# Altium footprint library FPT DRRL.PcbLib: 14 footprints
Each footprint in its own frame and in the unit in brackets; x right, y up, seen from the top. Pads: shape width x height; smd on the part's side, far side on the other; paste and mask are expansions set on the pad; w line width, h text height; cw(c..) or ccw(c..) is an arc to the next point about the centre after c.
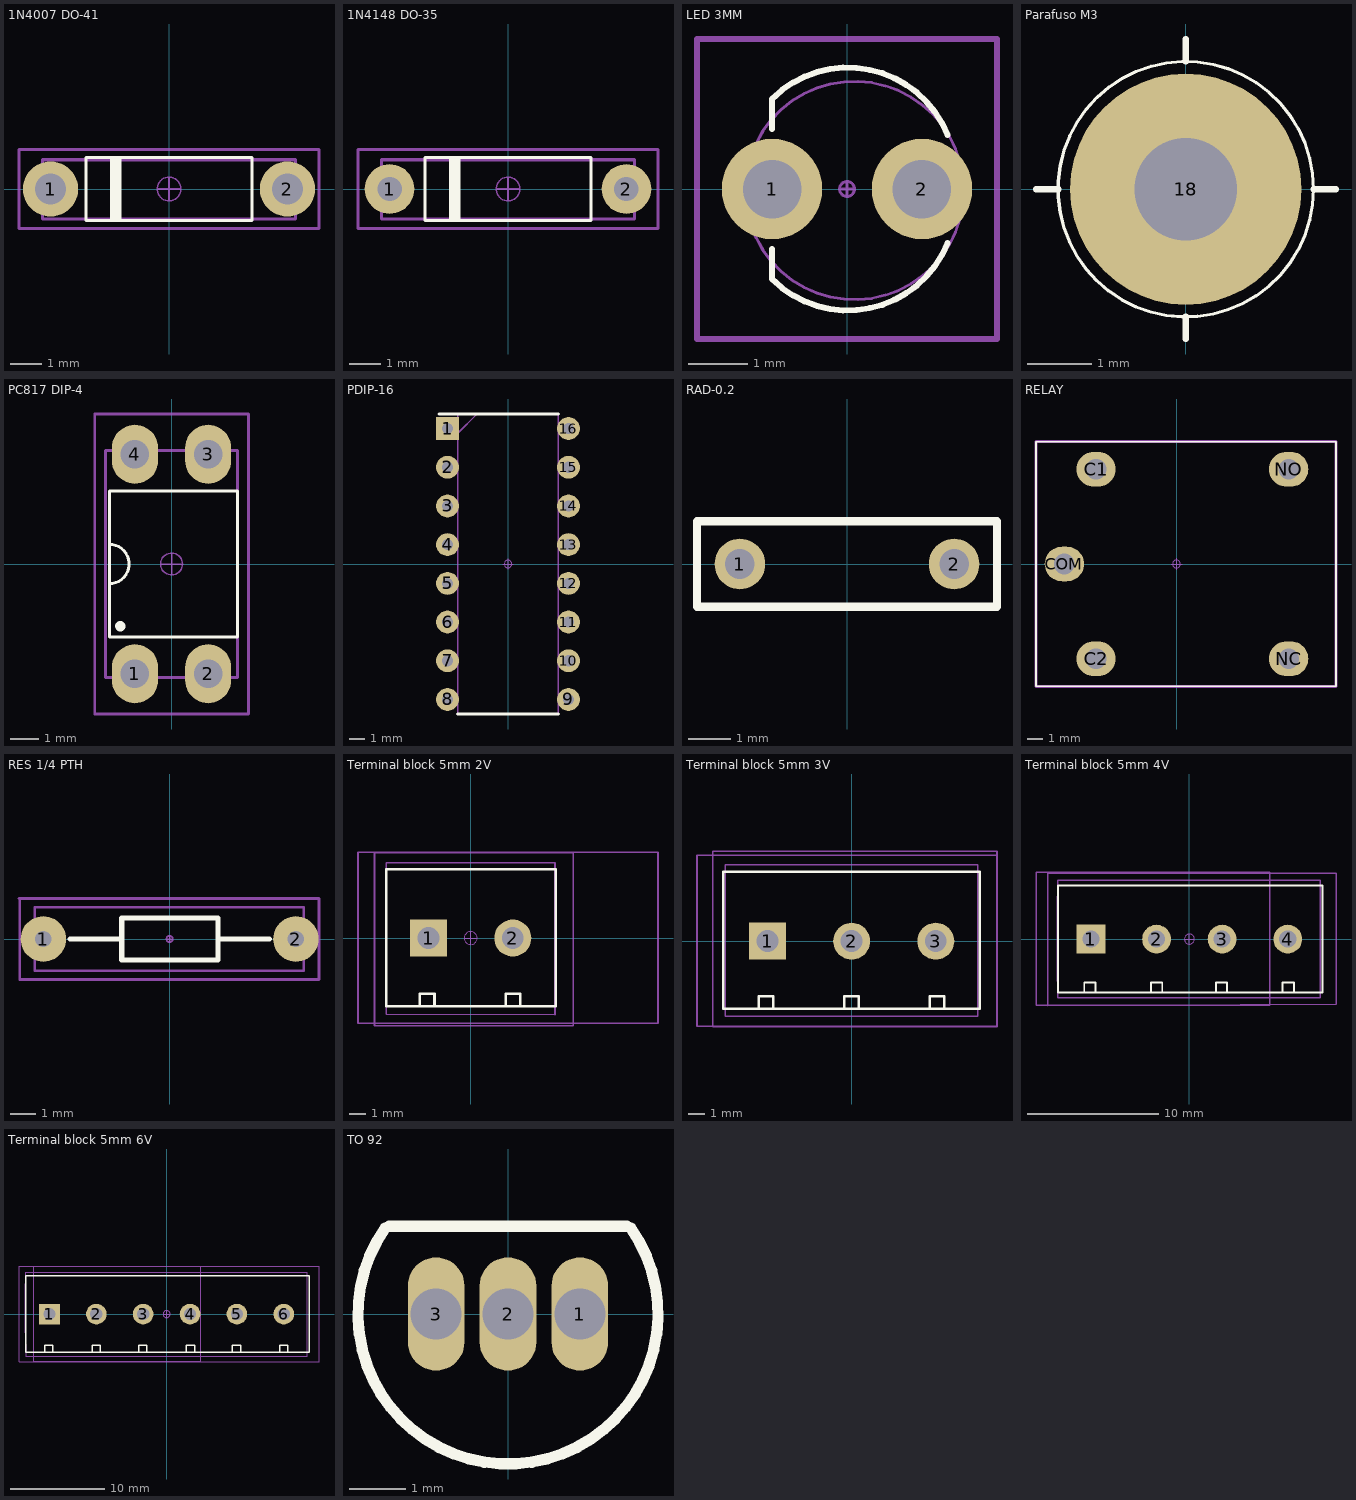
[diagram p0: the footprints below, top view; thin cyan lines are the x and y axes]

## 1N4007 DO-41 [mil]
pads (2):
  round 70 hole 39: 1(-150,0) 2(150,0)
Top Overlay:
  rectangle: -75,-40 -60,40
  lines w3.94: -105,-40 -105,40 105,40 105,-40 -105,-40
Top Cortyard:
  lines w3.94: -190,-50 -190,50 190,50 190,-50 -190,-50
Top Component Center:
  circle w1.97: c0,0 r15
  lines w1.97: -15,0 0,0 ; 0,-15 0,0 ; 0,15 0,0 ; 15,0 0,0
Body:
  lines w3.94: -160,-38 -160,37 160,37 160,-38 -160,-38
3D body "DO-41_Min_300mil_rev1.0.STEP": height 84.69, standoff -137.36, extent -164.02,-40.31 164.02,40

## 1N4148 DO-35 [mm]
pads (2):
  round 1.6 hole 0.787: 1(-3.81,0) 2(3.81,0)
Top Overlay:
  rectangle: -1.905,-1.016 -1.524,1.016
  lines w0.1: -2.667,-1.016 2.667,-1.016 2.667,1.016 -2.667,1.016 -2.667,-1.016
Top Cortyard:
  lines w0.1: -4.826,-1.27 4.826,-1.27 4.826,1.27 -4.826,1.27 -4.826,-1.27
Top Component Center:
  circle w0.05: c0,0 r0.381
  lines w0.05: -0.381,0 0,0 ; 0,-0.381 0,0 ; 0,0.381 0,0 ; 0.381,0 0,0
Body:
  lines w0.1: -4.064,-0.965 4.064,-0.965 4.064,0.94 -4.064,0.94 -4.064,-0.965
3D body "DO-35_Normal_300mil_rev1.0.STEP": height 1.97, standoff -3.54, extent -4.064,-0.965 4.064,0.94

## LED 3MM [mm]
pads (2):
  round 1.7 hole 0.991: 1(-1.27,0) 2(1.27,0)
Top Overlay:
  lines w0.1: -1.27,-1.524 -1.27,-1.016 ; -1.27,1.016 -1.27,1.524
  lines w0.102: -1.27,-1.524 ccw(c0.016,-0.238) 1.705,-0.911 ; -1.27,1.524 cw(c0.016,0.238) 1.705,0.911
Top Cortyard:
  lines w0.1: -2.54,-2.54 -2.54,0 -2.54,2.54 2.54,2.54 2.54,-2.54 -2.54,-2.54
Top Component Center:
  circle w0.05: c0,0 r0.127
  lines w0.05: -0.127,0 0,0 ; 0,-0.127 0,0 ; 0,0.127 0,0 ; 0.127,0 0,0
Body:
  circle w0.05: c0.127,-0.025 r1.849
3D body "LED D3 - Green_cutted.step": height 5.3, standoff -5.1, extent -1.658,-1.989 1.912,1.905

## Parafuso M3 [mm]
pads (1):
  round 3.6 hole 1.6 unplated: 18(0,0)
Top Overlay:
  circle w0.05: c0,0 r1.987
  lines w0.1: -2.331,0 -1.981,0 ; 0,-2.331 0,-1.981 ; 0,1.987 0,2.337 ; 1.987,0 2.337,0

## PC817 DIP-4 [mm]
pads (4):
  oval 1.6x2.05 hole 0.991: 1(-1.27,-3.81) 2(1.27,-3.81) 3(1.27,3.81) 4(-1.27,3.81)
Top Overlay:
  circle w0.254: c-1.778,-2.159 r0.051
  lines w0.1: -2.159,-2.54 -2.159,2.54 2.286,2.54 2.286,-2.54 -2.159,-2.54
  lines w0.102: -2.159,-0.684 ccw(c-2.159,0) -2.159,0.684
Top Cortyard:
  lines w0.1: -2.667,-5.207 -2.667,5.207 2.667,5.207 2.667,-5.207 -2.667,-5.207
Top Component Center:
  circle w0.05: c0,0 r0.381
  lines w0.05: -0.381,0 0,0 ; 0,-0.381 0,0 ; 0,0.381 0,0 ; 0.381,0 0,0
Body:
  lines w0.1: -2.286,-3.937 -2.286,3.937 2.286,3.937 2.286,-3.937 -2.286,-3.937
3D body "pc817 dip6.step": height 4.21, standoff -2.79, extent -2.295,-3.94 2.295,3.94

## PDIP-16 [mm]
pads (16):
  rect 1.5x1.5 / inner round 1.5 / far side rect 1.5x1.5 hole 0.73: 1(-3.97,8.89)
  round 1.5 hole 0.73: 2(-3.97,6.35) 3(-3.97,3.81) 4(-3.97,1.27) 5(-3.97,-1.27) 6(-3.97,-3.81) 7(-3.97,-6.35) 8(-3.97,-8.89) 9(3.97,-8.89) 10(3.97,-6.35) 11(3.97,-3.81) 12(3.97,-1.27) 13(3.97,1.27) 14(3.97,3.81) 15(3.97,6.35) 16(3.97,8.89)
Top Overlay:
  lines w0.2: -4.535,9.845 3.3,9.845 ; -3.3,-9.845 3.3,-9.845
Top Component Center:
  circle w0.05: c0,0 r0.25
  lines w0.05: -0.35,0 0.35,0 ; 0,-0.35 0,0.35
Body:
  lines w0.1: -3.3,8.575 -2.03,9.845 ; -3.3,-9.845 -3.3,9.845 3.3,9.845 3.3,-9.845 -3.3,-9.845
3D body "SN74HC595NE4.stp": height 5.17, standoff -3.2, extent -3.988,-9.893 3.886,9.792

## RAD-0.2 [mm]
pads (2):
  round 1.2 hole 0.7: 1(-2.54,0) 2(2.54,0)
Top Overlay:
  lines w0.2: -3.556,-1.016 3.556,-1.016 3.556,1.016 -3.556,1.016 -3.556,-1.016
3D body "User Library-Ceramic Disc Capacitor 0_2in pitch.step": height 7.31, standoff -1.19, extent -3.499,-0.848 3.5,0.848

## RELAY [mm]
pads (5):
  oval 2.5x2.2 hole 1.3: C1(-5.1,6) C2(-5.1,-6) COM(-7.1,0) NC(7.1,-6) NO(7.1,6)
Top Overlay:
  lines w0.1: -8.9,-7.75 -8.9,7.75 10.1,7.75 10.1,-7.75 -8.9,-7.75
Top Component Center:
  circle w0.05: c0,0 r0.25
  lines w0.05: -0.35,0 0.35,0 ; 0,-0.35 0,0.35
Body:
  lines w0.2: -8.9,-7.75 -8.9,7.75 10.1,7.75 10.1,-7.75 -8.9,-7.75
3D body "833H-1C-C-12VDC.stp": height 15.1, standoff -5, extent -8.9,-7.75 10.1,7.75

## RES 1/4 PTH [mm]
pads (2):
  round 1.8 hole 0.65: 1(-4.988,0) 2(4.988,0)
Top Overlay:
  lines w0.2: -3.937,0 -1.893,0 ; 1.917,0 3.937,0 ; -1.893,-0.825 -1.893,0.825 1.917,0.825 1.917,-0.825 -1.893,-0.825
Top Cortyard:
  lines w0.1: -5.95,1.6 5.9,1.6 5.9,-1.6 -5.925,-1.6 -5.925,1.6
Top Component Center:
  circle w0.05: c0,0 r0.127
  lines w0.05: -0.127,0 0,0 ; 0,-0.127 0,0 ; 0,0.127 0,0 ; 0.127,0 0,0
Body:
  lines w0.1: -5.3,1.25 -5.325,1.25 ; -5.325,1.25 5.3,1.25 5.3,-1.25 -5.325,-1.25 -5.325,1.25
3D body "R_0,5W__D2,5__L6,8__Pitch-10__Spacing-15_begie.stp": height 2.75, standoff -18.35, extent -5.313,-1.25 5.288,1.25

## Terminal block 5mm 2V [mm]
pads (2):
  rect 2.2x2.2 hole 1.3: 1(-2.5,0)
  round 2.2 hole 1.3: 2(2.5,0)
Top Overlay:
  lines w0.15: -3.012,-4.05 -3.012,-3.302 -2.58,-3.302 -2.148,-3.302 -2.148,-4.05 ; 2.068,-4.05 2.068,-3.302 2.5,-3.302 2.932,-3.302 2.932,-4.05 ; -5.018,-4.05 5.04,-4.05 5.04,4.1 -5.018,4.1 -5.018,-4.05
Top Cortyard:
  lines w0.1: -5.715,-5.207 6.096,-5.207 6.096,5.08 -5.715,5.08 -5.715,-5.207
Top Component Center:
  circle w0.05: c0,0 r0.381
  lines w0.05: -0.381,0 0,0 ; 0,-0.381 0,0 ; 0,0.381 0,0 ; 0.381,0 0,0
Body:
  lines w0.1: -5.004,-4.521 -5.004,4.47 5.004,4.47 5.004,-4.547 -5.004,-4.521
Mechanical 20:
  lines w0.1: -6.69,-5.05 -6.69,5.1 11.12,5.1 11.12,-5.05 -6.69,-5.05
3D body "DG125-5.0-02P-14-00AH.STEP": height 13.61, standoff -3.49, extent -4.995,-4.521 5.575,4.479

## Terminal block 5mm 3V [mm]
pads (3):
  rect 2.2x2.2 hole 1.3: 1(-5,0)
  round 2.2 hole 1.3: 2(0,0) 3(5,0)
Top Overlay:
  lines w0.15: -5.512,-4.025 -5.512,-3.277 -5.08,-3.277 -4.648,-3.277 -4.648,-4.025 ; -0.432,-4.025 -0.432,-3.277 0,-3.277 0.432,-3.277 0.432,-4.025 ; 4.648,-4.025 4.648,-3.277 5.08,-3.277 5.512,-3.277 5.512,-4.025 ; 7.62,-4.025 -7.62,-4.025 -7.62,4.125 7.62,4.125 ; 7.62,-4.013 7.62,-2.038 7.62,2.037 7.62,4.075
Top Cortyard:
  lines w0.1: -8.255,-5.08 -8.255,5.337 8.636,5.337 8.636,-5.08 -8.255,-5.08
Top Component Center:
  circle w0.05: c0,0 r0.381
  lines w0.05: -0.381,0 0,0 ; 0,-0.381 0,0 ; 0,0.381 0,0 ; 0.381,0 0,0
Body:
  lines w0.1: -7.518,-4.47 7.493,-4.47 7.493,4.547 -7.518,4.547 -7.518,-4.47
Mechanical 20:
  lines w0.1: -9.19,-5.05 -9.19,5.1 8.62,5.1 8.62,-5.05 -9.19,-5.05
3D body "DG125-5.0-03P-14-00AH.STEP": height 13.61, standoff -3.49, extent -7.518,-4.479 8.052,4.521

## Terminal block 5mm 4V [mm]
pads (4):
  rect 2.2x2.2 hole 1.3: 1(-7.5,0)
  round 2.2 hole 1.3: 2(-2.5,0) 3(2.5,0) 4(7.5,0)
Top Overlay:
  lines w0.15: -8.012,-4.05 -8.012,-3.302 -7.58,-3.302 -7.148,-3.302 -7.148,-4.05 ; -2.932,-4.05 -2.932,-3.302 -2.5,-3.302 -2.068,-3.302 -2.068,-4.05 ; 0.523,-4.05 10.149,-4.05 10.149,4.1 0.523,4.1 ; 0.61,-4.05 -10.018,-4.05 -10.018,4.1 0.61,4.1 ; 2.021,-4.05 2.021,-3.302 2.453,-3.302 2.885,-3.302 2.885,-4.05 ; 7.114,-4.05 7.114,-3.302 7.546,-3.302 7.977,-3.302 7.977,-4.05
Top Cortyard:
  lines w0.1: -10.795,-5.08 11.176,-4.953 11.176,5.011 -10.795,5.011 -10.795,-5.08
Top Component Center:
  circle w0.05: c0,0 r0.381
  lines w0.05: -0.381,0 0,0 ; 0,-0.381 0,0 ; 0,0.381 0,0 ; 0.381,0 0,0
Body:
  lines w0.1: -10.025,4.481 -10.055,2.088 -10.055,-1.987 -10.024,-4.482 ; -10.018,-4.482 0.635,-4.482 ; -10.018,4.481 0.61,4.481 ; 0.523,-4.482 9.986,-4.482 9.986,-2.038 9.986,2.037 9.986,4.481 0.523,4.481
Mechanical 20:
  lines w0.1: -11.69,-5.05 6.12,-5.05 6.12,5.1 -11.69,5.1 -11.69,-5.05
3D body "DG125-5.0-04P-14-00AH.STEP": height 13.61, standoff -3.49, extent -10.016,-4.496 10.554,4.504

## Terminal block 5mm 6V [mm]
pads (6):
  rect 2.2x2.2 hole 1.3: 1(-12.5,0)
  round 2.2 hole 1.3: 2(-7.5,0) 3(-2.5,0) 4(2.5,0) 5(7.5,0) 6(12.5,0)
Top Overlay:
  lines w0.15: -13.012,-4.05 -13.012,-3.302 -12.58,-3.302 -12.148,-3.302 -12.148,-4.05 ; -7.932,-4.05 -7.932,-3.302 -7.5,-3.302 -7.068,-3.302 -7.068,-4.05 ; -4.477,-4.05 5.149,-4.05 ; -4.477,4.1 5.149,4.1 ; -4.39,-4.05 -15.018,-4.05 -15.018,4.1 -4.39,4.1 ; -2.979,-4.05 -2.979,-3.302 -2.547,-3.302 -2.115,-3.302 -2.115,-4.05 ; 2.114,-4.05 2.114,-3.302 2.546,-3.302 2.977,-3.302 2.977,-4.05 ; 5.145,-4.05 15.204,-4.05 15.204,4.1 5.145,4.1 ; 7.025,-4.05 7.025,-3.302 7.457,-3.302 7.889,-3.302 7.889,-4.05 ; 12.08,-4.05 12.08,-3.302 12.511,-3.302 12.943,-3.302 12.943,-4.05
Top Cortyard:
  lines w0.1: -15.748,-5.08 16.256,-5.08 16.256,5.08 -15.748,5.08 -15.748,-5.08
Top Component Center:
  circle w0.05: c0,0 r0.381
  lines w0.05: -0.381,0 0,0 ; 0,-0.381 0,0 ; 0,0.381 0,0 ; 0.381,0 0,0
Body:
  lines w0.1: -15.025,4.481 -15.055,2.088 -15.055,-1.987 -15.024,-4.482 ; -15.018,-4.482 -4.365,-4.482 ; -15.018,4.481 -4.39,4.481 ; -4.477,-4.482 4.986,-4.482 14.986,-4.482 14.986,4.445 4.986,4.481 -4.477,4.481
Mechanical 20:
  lines w0.1: -14.19,-5.05 3.62,-5.05 3.62,5.1 -14.19,5.1 -14.19,-5.05
3D body "DG125-5.0-06P-14-00AH.STEP": height 13.61, standoff -3.49, extent -14.98,-4.53 15.59,4.47

## TO 92 [mm]
pads (3):
  oval 1x2 hole 0.9: 1(1.27,0) 2(0,0) 3(-1.27,0)
Top Overlay:
  lines w0.2: -2.171,1.52 ccw(c0,0) 2.171,1.52 ; -2.1,1.55 2.1,1.55
Top Component Center:
  circle w0.05: c0,0 r0.25
  lines w0.05: -0.35,0 0.35,0 ; 0,-0.35 0,0.35
3D body "BC33740TA.stp": height 13.95, standoff -7, extent -2.585,-2.412 2.616,1.778